# EAGLE library part IRF7205PBF (library robotter_ic)
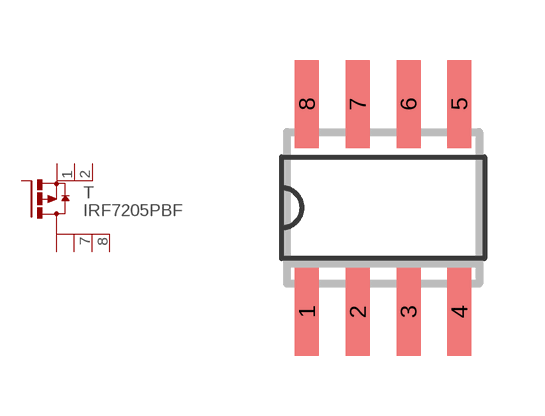
[diagram p25: symbol with the pads of SO8; footprint SO8]

Designator prefix T

## IRF7205PBF (RS: 542-9327)  [SO8]
1  S  pwr
2  S  pwr
3  S  pwr
4  G
5  D  pwr
6  D  pwr
7  D  pwr
8  D  pwr

## Footprint SO8 (pad centres in mm)
8-Lead Small Outline IC (SO-8) Source: http://www.analog.com/UploadedFiles/Data_Sheets/703465986AD8611_2_0.pdf
smd 0.6 x 2.2: 1 -1.905,-2.6; 2 -0.635,-2.6; 3 0.635,-2.6; 4 1.905,-2.6; 5 1.905,2.6; 6 0.635,2.6; 7 -0.635,2.6; 8 -1.905,2.6